# EAGLE library part NTSX2102 (library scono)
https://www.nxp.com/docs/en/data-sheet/NTSX2102.pdf
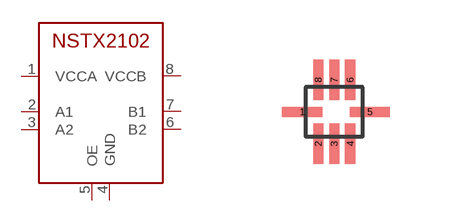
[diagram p24: symbol with the pads of SOT1309-1; footprint SOT1309-1]

Designator prefix IC

## NTSX2102  [SOT1309-1]
1  VCCA
2  A1
3  A2
4  GND
5  OE
6  B2
7  B1
8  VCCB

## Footprint SOT1309-1 (pad centres in mm)
SOT1309-1
smd 1 x 0.25: 1 -0.8,0; 5 0.9,0
smd 0.25 x 1: 2 -0.4,-0.8; 3 0,-0.8; 4 0.4,-0.8; 6 0.4,0.8; 7 0,0.8; 8 -0.4,0.8